# EAGLE library part LM393AP (library CameraTags)
LM393AP Texas Instruments Comparator Differential CMOS, MOS, Open-Drain, TTL 8-PDIP https://www.digikey.ca/product-detail/en/texas-instruments/LM393AP/296-6609-5-ND/372797
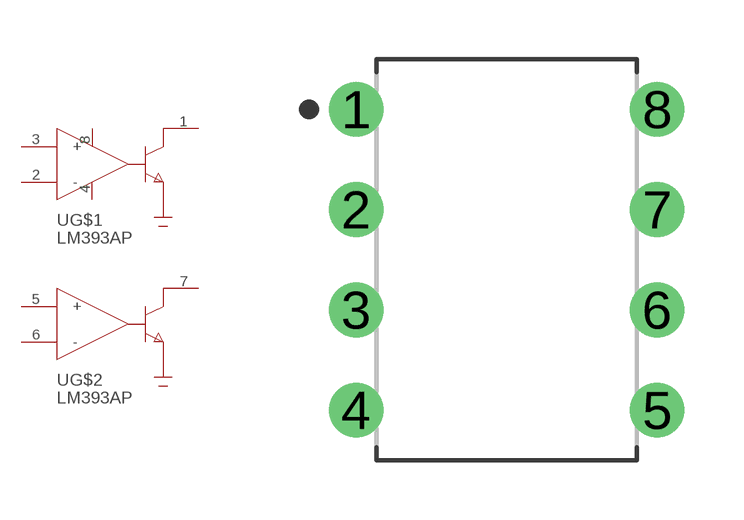
[diagram p22: symbol with the pads of DIP8; footprint DIP8]

Designator prefix U; gates G$1=OP_AMP_COMPARATOR G$2=OP_AMP_COMPARATOR G$3=VCC-GND

## LM393APDIP8  [DIP8]
1  G$1:OUT
2  G$1:-
3  G$1:+
4  G$3:GND
5  G$2:+
6  G$2:-
7  G$2:OUT
8  G$3:VCC

## Footprint DIP8 (pad centres in mm)
8-DIP, 2.54 mm (0.10 in) pitch, 7.62 mm (0.30 in) span, 9.59 X 6.35 X 5.08 mm body 8-pin DIP package with 2.54 mm (0.10 in) pitch, 7.62 mm (0.30 in) span with body size 9.59 X 6.35 X 5.08 mm
drill 0.786 pad 1.386: 1 -3.81,3.81; 2 -3.81,1.27; 3 -3.81,-1.27; 4 -3.81,-3.81; 5 3.81,-3.81; 6 3.81,-1.27; 7 3.81,1.27; 8 3.81,3.81